# Altium footprint library NL3333.PcbLib: 1 footprints
Each footprint in its own frame and in the unit in brackets; x right, y up, seen from the top. Pads: shape width x height; smd on the part's side, far side on the other; paste and mask are expansions set on the pad; w line width, h text height; cw(c..) or ccw(c..) is an arc to the next point about the centre after c.
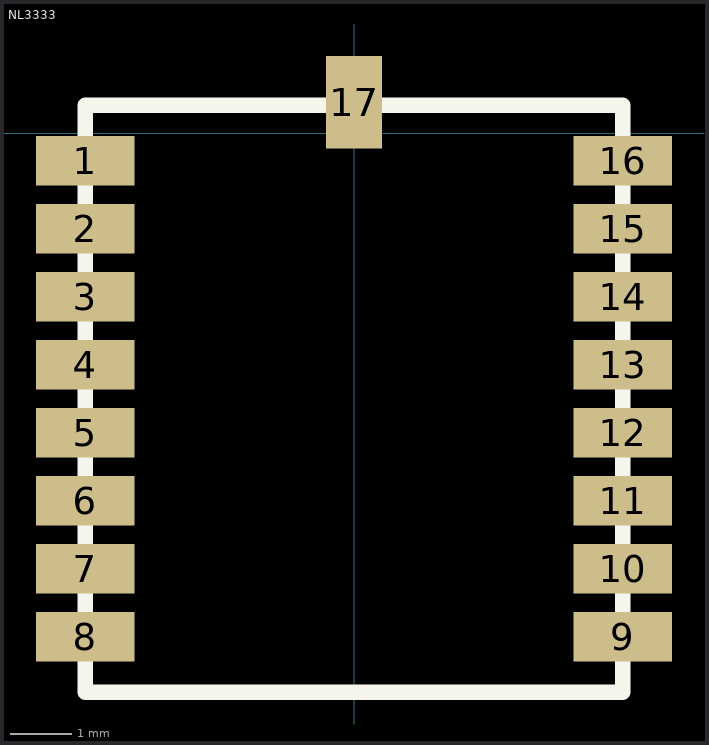
[diagram p0: the footprint, top view; thin cyan lines are the x and y axes]

## NL3333 [mm]
height 2
pads (17):
  rect 1.6x0.8 smd: 1(-4.35,-0.45) 2(-4.35,-1.55) 3(-4.35,-2.65) 4(-4.35,-3.75) 5(-4.35,-4.85) 6(-4.35,-5.95) 7(-4.35,-7.05) 8(-4.35,-8.15) 9(4.35,-8.15) 10(4.35,-7.05) 11(4.35,-5.95) 12(4.35,-4.85) 13(4.35,-3.75) 14(4.35,-2.65) 15(4.35,-1.55) 16(4.35,-0.45)
  rect 0.9x1.5 smd: 17(0,0.5)
Top Overlay:
  lines w0.254: -4.35,-9.05 4.35,-9.05 4.35,0.45 -4.35,0.45 -4.35,-9.05
3D body "NL3333.STEP": height 2, standoff 0, extent -4.25,-9.05 4.25,0.45